# Altium footprint library SMARC.PcbLib: 3 footprints
Each footprint in its own frame and in the unit in brackets; x right, y up, seen from the top. Pads: shape width x height; smd on the part's side, far side on the other; paste and mask are expansions set on the pad; w line width, h text height; cw(c..) or ccw(c..) is an arc to the next point about the centre after c.
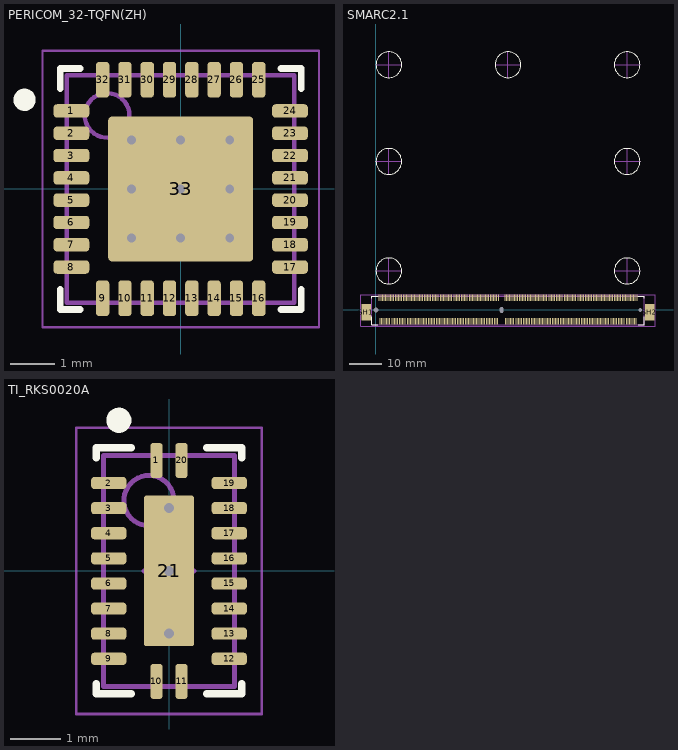
[diagram p0: the footprints below, top view; thin cyan lines are the x and y axes]

## PERICOM_32-TQFN(ZH) [mm] "QFN, 32-Leads, Body 5,00x5,00mm, Pitch 0,50mm, Thermal Pad 3,35x3,35mm, IPC Medium Density"
height 0.8
pads (33):
  rrect50% 0.8x0.3 smd mask+0.05: 1(-2.45,1.75) 2(-2.45,1.25) 3(-2.45,0.75) 4(-2.45,0.25) 5(-2.45,-0.25) 6(-2.45,-0.75) 7(-2.45,-1.25) 8(-2.45,-1.75) 17(2.45,-1.75) 18(2.45,-1.25) 19(2.45,-0.75) 20(2.45,-0.25) 21(2.45,0.25) 22(2.45,0.75) 23(2.45,1.25) 24(2.45,1.75)
  rrect50% 0.3x0.8 smd mask+0.05: 9(-1.75,-2.45) 10(-1.25,-2.45) 11(-0.75,-2.45) 12(-0.25,-2.45) 13(0.25,-2.45) 14(0.75,-2.45) 15(1.25,-2.45) 16(1.75,-2.45) 25(1.75,2.45) 26(1.25,2.45) 27(0.75,2.45) 28(0.25,2.45) 29(-0.25,2.45) 30(-0.75,2.45) 31(-1.25,2.45) 32(-1.75,2.45)
  rrect5% 3.25x3.25 smd paste-3 mask+0.05: 33(0,0)
via 1.1,-1.1 diameter 0.5 hole 0.2
via 0,-1.1 diameter 0.5 hole 0.2
via -1.1,-1.1 diameter 0.5 hole 0.2
via 1.1,0 diameter 0.5 hole 0.2
via 0,0 diameter 0.5 hole 0.2
via -1.1,0 diameter 0.5 hole 0.2
via 1.1,1.1 diameter 0.5 hole 0.2
via 0,1.1 diameter 0.5 hole 0.2
via -1.1,1.1 diameter 0.5 hole 0.2
Top Overlay:
  circle w0.25: c-3.5,2 r0.125
  lines w0.15: -2.7,-2.25 -2.7,-2.7 -2.25,-2.7 ; -2.7,2.25 -2.7,2.7 -2.25,2.7 ; 2.25,-2.7 2.7,-2.7 2.7,-2.25 ; 2.25,2.7 2.7,2.7 2.7,2.25
Top Paste:
  rectangle: -1,-1 -0.1,-0.1
  rectangle: 0.1,-1 1,-0.1
  rectangle: 0.1,0.1 1,1
  rectangle: -1,0.1 -0.1,1
Mechanical 13:
  circle w0.1: c-1.65,1.65 r0.5
  lines w0.1: -2.55,-2.55 2.55,-2.55 2.55,2.55 -2.55,2.55 -2.55,-2.55
Mechanical 15:
  lines w0.05: -3.1,-3.1 3.1,-3.1 3.1,3.1 -3.1,3.1 -3.1,-3.1
  lines w0.1: -0.5,0 0.5,0 ; 0,-0.5 0,0.5
3D body "PERICOM_32-TQFN(ZH).step": height 0.8, standoff 0, extent -2.551,-2.551 2.551,2.551

## SMARC2.1 [mm]
pads (319):
  round 0 hole 1.6 unplated paste+0.051 mask+0.051: HX(0,0)
  round 0 hole 1 slot 1.8 at 90 deg unplated paste+0.051 mask+0.051: HX(39,0)
  round 0 hole 1.1 unplated paste+0.051 mask+0.051: HX(82,0)
  rect 0.3x2 smd paste+0.051 mask+0.051: P1(1.25,-3.5) P2(1.75,-3.5) P3(2.25,-3.5) P4(2.75,-3.5) P5(3.25,-3.5) P6(3.75,-3.5) P7(4.25,-3.5) P8(4.75,-3.5) P9(5.25,-3.5) P10(5.75,-3.5) P11(6.25,-3.5) P12(6.75,-3.5) P13(7.25,-3.5) P14(7.75,-3.5) P15(8.25,-3.5) P16(8.75,-3.5) P17(9.25,-3.5) P18(9.75,-3.5) P19(10.25,-3.5) P20(10.75,-3.5) P21(11.25,-3.5) P22(11.75,-3.5) P23(12.25,-3.5) P24(12.75,-3.5) P25(13.25,-3.5) P26(13.75,-3.5) P27(14.25,-3.5) P28(14.75,-3.5) P29(15.25,-3.5) P30(15.75,-3.5) P31(16.25,-3.5) P32(16.75,-3.5) P33(17.25,-3.5) P34(17.75,-3.5) P35(18.25,-3.5) P36(18.75,-3.5) P37(19.25,-3.5) P38(19.75,-3.5) P39(20.25,-3.5) P40(20.75,-3.5) P41(21.25,-3.5) P42(21.75,-3.5) P43(22.25,-3.5) P44(22.75,-3.5) P45(23.25,-3.5) P46(23.75,-3.5) P47(24.25,-3.5) P48(24.75,-3.5) P49(25.25,-3.5) P50(25.75,-3.5) P51(26.25,-3.5) P52(26.75,-3.5) P53(27.25,-3.5) P54(27.75,-3.5) P55(28.25,-3.5) P56(28.75,-3.5) P57(29.25,-3.5) P58(29.75,-3.5) P59(30.25,-3.5) P60(30.75,-3.5) P61(31.25,-3.5) P62(31.75,-3.5) P63(32.25,-3.5) P64(32.75,-3.5) P65(33.25,-3.5) P66(33.75,-3.5) P67(34.25,-3.5) P68(34.75,-3.5) P69(35.25,-3.5) P70(35.75,-3.5) P71(36.25,-3.5) P72(36.75,-3.5) P73(37.25,-3.5) P74(37.75,-3.5) P75(40.25,-3.5) P76(40.75,-3.5) P77(41.25,-3.5) P78(41.75,-3.5) P79(42.25,-3.5) P80(42.75,-3.5) P81(43.25,-3.5) P82(43.75,-3.5) P83(44.25,-3.5) P84(44.75,-3.5) P85(45.25,-3.5) P86(45.75,-3.5) P87(46.25,-3.5) P88(46.75,-3.5) P89(47.25,-3.5) P90(47.75,-3.5) P91(48.25,-3.5) P92(48.75,-3.5) P93(49.25,-3.5) P94(49.75,-3.5) P95(50.25,-3.5) P96(50.75,-3.5) P97(51.25,-3.5) P98(51.75,-3.5) P99(52.25,-3.5) P100(52.75,-3.5) P101(53.25,-3.5) P102(53.75,-3.5) P103(54.25,-3.5) P104(54.75,-3.5) P105(55.25,-3.5) P106(55.75,-3.5) P107(56.25,-3.5) P108(56.75,-3.5) P109(57.25,-3.5) P110(57.75,-3.5) P111(58.25,-3.5) P112(58.75,-3.5) P113(59.25,-3.5) P114(59.75,-3.5) P115(60.25,-3.5) P116(60.75,-3.5) P117(61.25,-3.5) P118(61.75,-3.5) P119(62.25,-3.5) P120(62.75,-3.5) P121(63.25,-3.5) P122(63.75,-3.5) P123(64.25,-3.5) P124(64.75,-3.5) P125(65.25,-3.5) P126(65.75,-3.5) P127(66.25,-3.5) P128(66.75,-3.5) P129(67.25,-3.5) P130(67.75,-3.5) P131(68.25,-3.5) P132(68.75,-3.5) P133(69.25,-3.5) P134(69.75,-3.5) P135(70.25,-3.5) P136(70.75,-3.5) P137(71.25,-3.5) P138(71.75,-3.5) P139(72.25,-3.5) P140(72.75,-3.5) P141(73.25,-3.5) P142(73.75,-3.5) P143(74.25,-3.5) P144(74.75,-3.5) P145(75.25,-3.5) P146(75.75,-3.5) P147(76.25,-3.5) P148(76.75,-3.5) P149(77.25,-3.5) P150(77.75,-3.5) P151(78.25,-3.5) P152(78.75,-3.5) P153(79.25,-3.5) P154(79.75,-3.5) P155(80.25,-3.5) P156(80.75,-3.5) S1(1,3.8) S2(1.5,3.8) S3(2,3.8) S4(2.5,3.8) S5(3,3.8) S6(3.5,3.8) S7(4,3.8) S8(4.5,3.8) S9(5,3.8) S10(5.5,3.8) S11(6,3.8) S12(6.5,3.8) S13(7,3.8) S14(7.5,3.8) S15(8,3.8) S16(8.5,3.8) S17(9,3.8) S18(9.5,3.8) S19(10,3.8) S20(10.5,3.8) S21(11,3.8) S22(11.5,3.8) S23(12,3.8) S24(12.5,3.8) S25(13,3.8) S26(13.5,3.8) S27(14,3.8) S28(14.5,3.8) S29(15,3.8) S30(15.5,3.8) S31(16,3.8) S32(16.5,3.8) S33(17,3.8) S34(17.5,3.8) S35(18,3.8) S36(18.5,3.8) S37(19,3.8) S38(19.5,3.8) S39(20,3.8) S40(20.5,3.8) S41(21,3.8) S42(21.5,3.8) S43(22,3.8) S44(22.5,3.8) S45(23,3.8) S46(23.5,3.8) S47(24,3.8) S48(24.5,3.8) S49(25,3.8) S50(25.5,3.8) S51(26,3.8) S52(26.5,3.8) S53(27,3.8) S54(27.5,3.8) S55(28,3.8) S56(28.5,3.8) S57(29,3.8) S58(29.5,3.8) S59(30,3.8) S60(30.5,3.8) S61(31,3.8) S62(31.5,3.8) S63(32,3.8) S64(32.5,3.8) S65(33,3.8) S66(33.5,3.8) S67(34,3.8) S68(34.5,3.8) S69(35,3.8) S70(35.5,3.8) S71(36,3.8) S72(36.5,3.8) S73(37,3.8) S74(37.5,3.8) S75(38,3.8) S76(40,3.8) S77(40.5,3.8) S78(41,3.8) S79(41.5,3.8) S80(42,3.8) S81(42.5,3.8) S82(43,3.8) S83(43.5,3.8) S84(44,3.8) S85(44.5,3.8) S86(45,3.8) S87(45.5,3.8) S88(46,3.8) S89(46.5,3.8) S90(47,3.8) S91(47.5,3.8) S92(48,3.8) S93(48.5,3.8) S94(49,3.8) S95(49.5,3.8) S96(50,3.8) S97(50.5,3.8) S98(51,3.8) S99(51.5,3.8) S100(52,3.8) S101(52.5,3.8) S102(53,3.8) S103(53.5,3.8) S104(54,3.8) S105(54.5,3.8) S106(55,3.8) S107(55.5,3.8) S108(56,3.8) S109(56.5,3.8) S110(57,3.8) S111(57.5,3.8) S112(58,3.8) S113(58.5,3.8) S114(59,3.8) S115(59.5,3.8) S116(60,3.8) S117(60.5,3.8) S118(61,3.8) S119(61.5,3.8) S120(62,3.8) S121(62.5,3.8) S122(63,3.8) S123(63.5,3.8) S124(64,3.8) S125(64.5,3.8) S126(65,3.8) S127(65.5,3.8) S128(66,3.8) S129(66.5,3.8) S130(67,3.8) S131(67.5,3.8) S132(68,3.8) S133(68.5,3.8) S134(69,3.8) S135(69.5,3.8) S136(70,3.8) S137(70.5,3.8) S138(71,3.8) S139(71.5,3.8) S140(72,3.8) S141(72.5,3.8) S142(73,3.8) S143(73.5,3.8) S144(74,3.8) S145(74.5,3.8) S146(75,3.8) S147(75.5,3.8) S148(76,3.8) S149(76.5,3.8) S150(77,3.8) S151(77.5,3.8) S152(78,3.8) S153(78.5,3.8) S154(79,3.8) S155(79.5,3.8) S156(80,3.8) S157(80.5,3.8) S158(81,3.8)
  rect 3x5.15 smd paste+0.051 mask+0.051: SH1(-3,-0.75) SH2(85,-0.75)
Top Overlay:
  circle w0.3: c4,12.13 r4
  circle w0.3: c4,46.13 r4
  circle w0.3: c4,76.13 r4
  circle w0.3: c41,76.13 r4
  circle w0.3: c78,76.13 r4
  circle w0.3: c78,46.13 r4
  circle w0.3: c78,12.13 r4
  lines w0.127: -1.3,-2.145 -1.3,-4.65 0.52,-4.65 ; -1.3,3.645 -1.3,4.2 0.77,4.2 ; 81.245,4.2 83.3,4.2 83.3,3.645 ; 81.495,-4.65 83.3,-4.65 83.3,-2.145
Mechanical 1:
  lines w0.1: 0,12.13 8,12.13 ; 0,46.13 8,46.13 ; 0,76.13 8,76.13 ; 4,8.13 4,16.13 ; 4,42.13 4,50.13 ; 4,72.13 4,80.13 ; 37,76.13 45,76.13 ; 41,72.13 41,80.13 ; 74,12.13 82,12.13 ; 74,46.13 82,46.13 ; 74,76.13 82,76.13 ; 78,8.13 78,16.13 ; 78,42.13 78,50.13 ; 78,72.13 78,80.13
Mechanical 13:
  lines w0.127: -1.3,-4.65 83.3,-4.65 83.3,4.2 -1.3,4.2 -1.3,-4.65
Mechanical 15:
  lines w0.05: -4.75,-5 -4.75,4.75 86.75,4.75 86.75,-5 -4.75,-5
3D body "10151114-001TLF--3DModel-STEP-533217.STEP": height 7.81, standoff -0.54, extent -3.03,-4.2 85.03,4.65
3D body "STEP_Tungsten700_SMARC_SOM_REV10-P1_20231114.step": height 9.47, standoff 4.1, extent 0,0.13 82,50.13

## TI_RKS0020A [mm] "QFN, 20-Leads, Body 2,50x4,50mm, Pitch 0,50mm, Thermal Pad 1,00x3,00mm, IPC Medium Density"
height 1
pads (21):
  rrect50% 0.24x0.7 smd paste+0 mask+0.05: 1(-0.25,2.2) 10(-0.25,-2.2) 11(0.25,-2.2) 20(0.25,2.2)
  rrect50% 0.7x0.24 smd paste+0 mask+0.05: 2(-1.2,1.75) 3(-1.2,1.25) 4(-1.2,0.75) 5(-1.2,0.25) 6(-1.2,-0.25) 7(-1.2,-0.75) 8(-1.2,-1.25) 9(-1.2,-1.75) 12(1.2,-1.75) 13(1.2,-1.25) 14(1.2,-0.75) 15(1.2,-0.25) 16(1.2,0.25) 17(1.2,0.75) 18(1.2,1.25) 19(1.2,1.75)
  rrect10% 1x3 smd paste-2 mask+0.05: 21(0,0)
via 0,1.25 diameter 0.5 hole 0.2
via 0,0 diameter 0.5 hole 0.2
via 0,-1.25 diameter 0.5 hole 0.2
Top Overlay:
  circle w0.25: c-1,3 r0.125
  lines w0.15: -1.45,-2.25 -1.45,-2.45 -0.75,-2.45 ; -1.45,2.25 -1.45,2.45 -0.75,2.45 ; 0.75,-2.45 1.45,-2.45 1.45,-2.25 ; 0.75,2.45 1.45,2.45 1.45,2.25
Top Paste:
  rectangle: -0.5,0.25 0.5,1
  rectangle: -0.5,-1 0.5,-0.25
Mechanical 13:
  circle w0.1: c-0.4,1.4 r0.5
  lines w0.1: -1.3,-2.3 -1.3,2.3 1.3,2.3 1.3,-2.3 -1.3,-2.3
Mechanical 15:
  lines w0.05: -1.85,-2.85 -1.85,2.85 1.85,2.85 1.85,-2.85 -1.85,-2.85
  lines w0.1: -0.5,0 0.5,0 ; 0,-0.5 0,0.5
3D body "TI_RKS0020A.step": height 1, standoff 0, extent -1.38,-2.38 1.38,2.38